# Altium schematic symbol library WE-LQS.SchLib: 214 symbols (part 4 of 4)
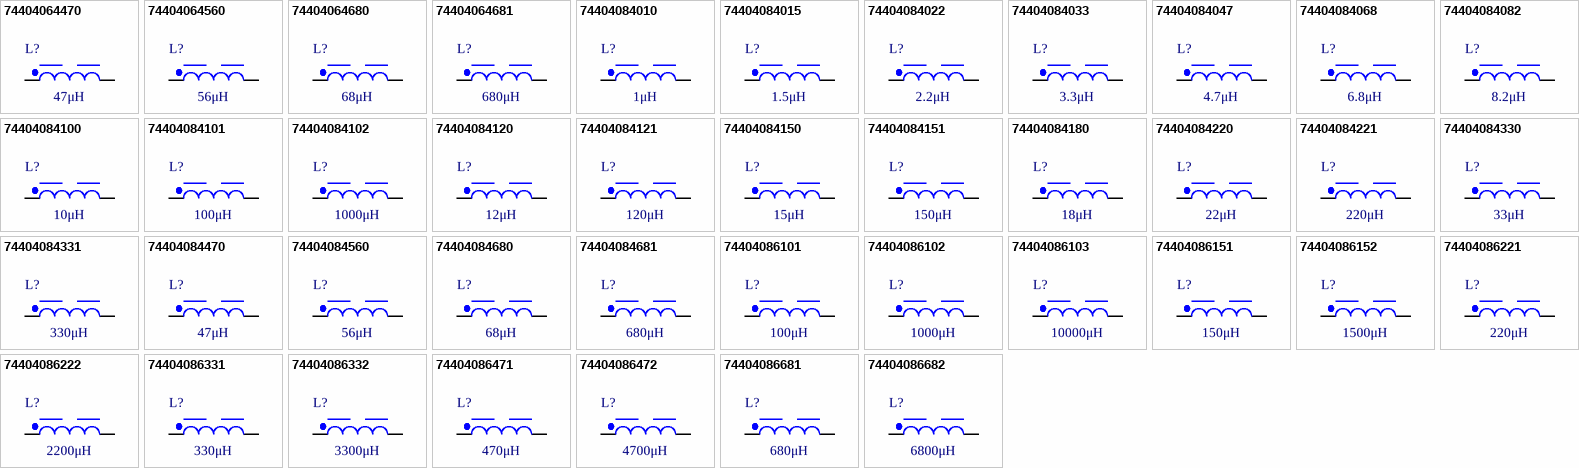
[diagram p8: symbols 74404064470 to 74404086682]

## 74404084221
designator L?, comment 220μH
WE-LQS SMT Power Inductor, size 8040, 220μH, 0.592Ω; Manufacturer Part Number: 74404084221; Manufacturer: Wurth Elektronik; Case/Size Code: 8040; Rated Current: 0.81A; Saturation Current: 1.1A; Self Resonant Frequency: 4.5MHz; Category: Power Inductors; Match Code: WE-LQS; ComponentLink1Description: Website Link; ComponentLink1URL: https://www.we-online.com/redexpert/article/74404084221?ad; ComponentLink2Description: Datasheet Link; ComponentLink2URL: https://www.we-online.com/redexpert/spec/74404084221?ad; Mount: Surface Mount; Min Operating Temperature: -40°C; Max Operating Temperature: 125°C; Packaging: Tape and Reel; Length: 8mm; Width: 8mm; Height: 4.2mm; DC Resistance: 0.592Ω; Inductance: 220μH
footprint WE-LQS_8040
simulation model 8040_74404084221_220u
pins: 1, 2

## 74404084330
designator L?, comment 33μH
WE-LQS SMT Power Inductor, size 8040, 33μH, 0.097Ω; Manufacturer Part Number: 74404084330; Manufacturer: Wurth Elektronik; Case/Size Code: 8040; Rated Current: 1.8A; Saturation Current: 2.7A; Self Resonant Frequency: 12MHz; Category: Power Inductors; Match Code: WE-LQS; ComponentLink1Description: Website Link; ComponentLink1URL: https://www.we-online.com/redexpert/article/74404084330?ad; ComponentLink2Description: Datasheet Link; ComponentLink2URL: https://www.we-online.com/redexpert/spec/74404084330?ad; Mount: Surface Mount; Min Operating Temperature: -40°C; Max Operating Temperature: 125°C; Packaging: Tape and Reel; Length: 8mm; Width: 8mm; Height: 4.2mm; DC Resistance: 0.097Ω; Inductance: 33μH
footprint WE-LQS_8040
simulation model 8040_74404084330_33u
pins: 1, 2

## 74404084331
designator L?, comment 330μH
WE-LQS SMT Power Inductor, size 8040, 330μH, 0.865Ω; Manufacturer Part Number: 74404084331; Manufacturer: Wurth Elektronik; Case/Size Code: 8040; Rated Current: 0.66A; Saturation Current: 0.9A; Self Resonant Frequency: 3.55MHz; Category: Power Inductors; Match Code: WE-LQS; ComponentLink1Description: Website Link; ComponentLink1URL: https://www.we-online.com/redexpert/article/74404084331?ad; ComponentLink2Description: Datasheet Link; ComponentLink2URL: https://www.we-online.com/redexpert/spec/74404084331?ad; Mount: Surface Mount; Min Operating Temperature: -40°C; Max Operating Temperature: 125°C; Packaging: Tape and Reel; Length: 8mm; Width: 8mm; Height: 4.2mm; DC Resistance: 0.865Ω; Inductance: 330μH
footprint WE-LQS_8040
simulation model 8040_74404084331_330u
pins: 1, 2

## 74404084470
designator L?, comment 47μH
WE-LQS SMT Power Inductor, size 8040, 47μH, 0.136Ω; Manufacturer Part Number: 74404084470; Manufacturer: Wurth Elektronik; Case/Size Code: 8040; Rated Current: 1.55A; Saturation Current: 2.1A; Self Resonant Frequency: 9.8MHz; Category: Power Inductors; Match Code: WE-LQS; ComponentLink1Description: Website Link; ComponentLink1URL: https://www.we-online.com/redexpert/article/74404084470?ad; ComponentLink2Description: Datasheet Link; ComponentLink2URL: https://www.we-online.com/redexpert/spec/74404084470?ad; Mount: Surface Mount; Min Operating Temperature: -40°C; Max Operating Temperature: 125°C; Packaging: Tape and Reel; Length: 8mm; Width: 8mm; Height: 4.2mm; DC Resistance: 0.136Ω; Inductance: 47μH
footprint WE-LQS_8040
simulation model 8040_74404084470_47u
pins: 1, 2

## 74404084560
designator L?, comment 56μH
WE-LQS SMT Power Inductor, size 8040, 56μH, 0.18Ω; Manufacturer Part Number: 74404084560; Manufacturer: Wurth Elektronik; Case/Size Code: 8040; Rated Current: 1.5A; Saturation Current: 2A; Self Resonant Frequency: 8MHz; Category: Power Inductors; Match Code: WE-LQS; ComponentLink1Description: Website Link; ComponentLink1URL: https://www.we-online.com/redexpert/article/74404084560?ad; ComponentLink2Description: Datasheet Link; ComponentLink2URL: https://www.we-online.com/redexpert/spec/74404084560?ad; Mount: Surface Mount; Min Operating Temperature: -40°C; Max Operating Temperature: 125°C; Packaging: Tape and Reel; Length: 8mm; Width: 8mm; Height: 4.2mm; DC Resistance: 0.18Ω; Inductance: 56μH
footprint WE-LQS_8040
simulation model 8040_74404084560_56u
pins: 1, 2

## 74404084680
designator L?, comment 68μH
WE-LQS SMT Power Inductor, size 8040, 68μH, 0.196Ω; Manufacturer Part Number: 74404084680; Manufacturer: Wurth Elektronik; Case/Size Code: 8040; Rated Current: 1.25A; Saturation Current: 1.7A; Self Resonant Frequency: 8.1MHz; Category: Power Inductors; Match Code: WE-LQS; ComponentLink1Description: Website Link; ComponentLink1URL: https://www.we-online.com/redexpert/article/74404084680?ad; ComponentLink2Description: Datasheet Link; ComponentLink2URL: https://www.we-online.com/redexpert/spec/74404084680?ad; Mount: Surface Mount; Min Operating Temperature: -40°C; Max Operating Temperature: 125°C; Packaging: Tape and Reel; Length: 8mm; Width: 8mm; Height: 4.2mm; DC Resistance: 0.196Ω; Inductance: 68μH
footprint WE-LQS_8040
simulation model 8040_74404084680_68u
pins: 1, 2

## 74404084681
designator L?, comment 680μH
WE-LQS SMT Power Inductor, size 8040, 680μH, 2.032Ω; Manufacturer Part Number: 74404084681; Manufacturer: Wurth Elektronik; Case/Size Code: 8040; Rated Current: 0.52A; Saturation Current: 0.6A; Self Resonant Frequency: 2.1MHz; Category: Power Inductors; Match Code: WE-LQS; ComponentLink1Description: Website Link; ComponentLink1URL: https://www.we-online.com/redexpert/article/74404084681?ad; ComponentLink2Description: Datasheet Link; ComponentLink2URL: https://www.we-online.com/redexpert/spec/74404084681?ad; Mount: Surface Mount; Min Operating Temperature: -40°C; Max Operating Temperature: 125°C; Packaging: Tape and Reel; Length: 8mm; Width: 8mm; Height: 4.2mm; DC Resistance: 2.032Ω; Inductance: 680μH
footprint WE-LQS_8040
simulation model 8040_74404084681_680u
pins: 1, 2

## 74404086101
designator L?, comment 100μH
WE-LQS SMT Power Inductor, size 8065, 100μH, 0.238Ω; Manufacturer Part Number: 74404086101; Manufacturer: Wurth Elektronik; Case/Size Code: 8065; Rated Current: 1.35A; Saturation Current: 2.15A; Self Resonant Frequency: 4MHz; Category: Power Inductors; Match Code: WE-LQS; ComponentLink1Description: Website Link; ComponentLink1URL: https://www.we-online.com/redexpert/article/74404086101?ad; ComponentLink2Description: Datasheet Link; ComponentLink2URL: https://www.we-online.com/redexpert/spec/74404086101?ad; Mount: Surface Mount; Min Operating Temperature: -40°C; Max Operating Temperature: 125°C; Packaging: Tape and Reel; Length: 8mm; Width: 8mm; Height: 6.5mm; DC Resistance: 0.238Ω; Inductance: 100μH
footprint WE-LQS_8065
simulation model 8065_74404086101_100u
pins: 1, 2

## 74404086102
designator L?, comment 1000μH
WE-LQS SMT Power Inductor, size 8065, 1000μH, 2.35Ω; Manufacturer Part Number: 74404086102; Manufacturer: Wurth Elektronik; Case/Size Code: 8065; Rated Current: 0.48A; Saturation Current: 0.65A; Self Resonant Frequency: 1.39MHz; Category: Power Inductors; Match Code: WE-LQS; ComponentLink1Description: Website Link; ComponentLink1URL: https://www.we-online.com/redexpert/article/74404086102?ad; ComponentLink2Description: Datasheet Link; ComponentLink2URL: https://www.we-online.com/redexpert/spec/74404086102?ad; Mount: Surface Mount; Min Operating Temperature: -40°C; Max Operating Temperature: 125°C; Packaging: Tape and Reel; Length: 8mm; Width: 8mm; Height: 6.5mm; DC Resistance: 2.35Ω; Inductance: 1000μH
footprint WE-LQS_8065
simulation model 8065_74404086102_1000u
pins: 1, 2

## 74404086103
designator L?, comment 10000μH
WE-LQS SMT Power Inductor, size 8065, 10000μH, 22.8Ω; Manufacturer Part Number: 74404086103; Manufacturer: Wurth Elektronik; Case/Size Code: 8065; Rated Current: 0.13A; Saturation Current: 0.2A; Self Resonant Frequency: 0.411MHz; Category: Power Inductors; Match Code: WE-LQS; ComponentLink1Description: Website Link; ComponentLink1URL: https://www.we-online.com/redexpert/article/74404086103?ad; ComponentLink2Description: Datasheet Link; ComponentLink2URL: https://www.we-online.com/redexpert/spec/74404086103?ad; Mount: Surface Mount; Min Operating Temperature: -40°C; Max Operating Temperature: 125°C; Packaging: Tape and Reel; Length: 8mm; Width: 8mm; Height: 6.5mm; DC Resistance: 22.8Ω; Inductance: 10000μH
footprint WE-LQS_8065
simulation model 8065_74404086103_10000u
pins: 1, 2

## 74404086151
designator L?, comment 150μH
WE-LQS SMT Power Inductor, size 8065, 150μH, 0.355Ω; Manufacturer Part Number: 74404086151; Manufacturer: Wurth Elektronik; Case/Size Code: 8065; Rated Current: 1.2A; Saturation Current: 1.8A; Self Resonant Frequency: 3.2MHz; Category: Power Inductors; Match Code: WE-LQS; ComponentLink1Description: Website Link; ComponentLink1URL: https://www.we-online.com/redexpert/article/74404086151?ad; ComponentLink2Description: Datasheet Link; ComponentLink2URL: https://www.we-online.com/redexpert/spec/74404086151?ad; Mount: Surface Mount; Min Operating Temperature: -40°C; Max Operating Temperature: 125°C; Packaging: Tape and Reel; Length: 8mm; Width: 8mm; Height: 6.5mm; DC Resistance: 0.355Ω; Inductance: 150μH
footprint WE-LQS_8065
simulation model 8065_74404086151_150u
pins: 1, 2

## 74404086152
designator L?, comment 1500μH
WE-LQS SMT Power Inductor, size 8065, 1500μH, 3.65Ω; Manufacturer Part Number: 74404086152; Manufacturer: Wurth Elektronik; Case/Size Code: 8065; Rated Current: 0.36A; Saturation Current: 0.54A; Self Resonant Frequency: 1.13MHz; Category: Power Inductors; Match Code: WE-LQS; ComponentLink1Description: Website Link; ComponentLink1URL: https://www.we-online.com/redexpert/article/74404086152?ad; ComponentLink2Description: Datasheet Link; ComponentLink2URL: https://www.we-online.com/redexpert/spec/74404086152?ad; Mount: Surface Mount; Min Operating Temperature: -40°C; Max Operating Temperature: 125°C; Packaging: Tape and Reel; Length: 8mm; Width: 8mm; Height: 6.5mm; DC Resistance: 3.65Ω; Inductance: 1500μH
footprint WE-LQS_8065
simulation model 8065_74404086152_1500u
pins: 1, 2

## 74404086221
designator L?, comment 220μH
WE-LQS SMT Power Inductor, size 8065, 220μH, 0.555Ω; Manufacturer Part Number: 74404086221; Manufacturer: Wurth Elektronik; Case/Size Code: 8065; Rated Current: 0.95A; Saturation Current: 1.44A; Self Resonant Frequency: 2.8MHz; Category: Power Inductors; Match Code: WE-LQS; ComponentLink1Description: Website Link; ComponentLink1URL: https://www.we-online.com/redexpert/article/74404086221?ad; ComponentLink2Description: Datasheet Link; ComponentLink2URL: https://www.we-online.com/redexpert/spec/74404086221?ad; Mount: Surface Mount; Min Operating Temperature: -40°C; Max Operating Temperature: 125°C; Packaging: Tape and Reel; Length: 8mm; Width: 8mm; Height: 6.5mm; DC Resistance: 0.555Ω; Inductance: 220μH
footprint WE-LQS_8065
simulation model 8065_74404086221_220u
pins: 1, 2

## 74404086222
designator L?, comment 2200μH
WE-LQS SMT Power Inductor, size 8065, 2200μH, 5Ω; Manufacturer Part Number: 74404086222; Manufacturer: Wurth Elektronik; Case/Size Code: 8065; Rated Current: 0.31A; Saturation Current: 0.45A; Self Resonant Frequency: 0.924MHz; Category: Power Inductors; Match Code: WE-LQS; ComponentLink1Description: Website Link; ComponentLink1URL: https://www.we-online.com/redexpert/article/74404086222?ad; ComponentLink2Description: Datasheet Link; ComponentLink2URL: https://www.we-online.com/redexpert/spec/74404086222?ad; Mount: Surface Mount; Min Operating Temperature: -40°C; Max Operating Temperature: 125°C; Packaging: Tape and Reel; Length: 8mm; Width: 8mm; Height: 6.5mm; DC Resistance: 5Ω; Inductance: 2200μH
footprint WE-LQS_8065
simulation model 8065_74404086222_2200u
pins: 1, 2

## 74404086331
designator L?, comment 330μH
WE-LQS SMT Power Inductor, size 8065, 330μH, 0.698Ω; Manufacturer Part Number: 74404086331; Manufacturer: Wurth Elektronik; Case/Size Code: 8065; Rated Current: 0.85A; Saturation Current: 1.12A; Self Resonant Frequency: 2.3MHz; Category: Power Inductors; Match Code: WE-LQS; ComponentLink1Description: Website Link; ComponentLink1URL: https://www.we-online.com/redexpert/article/74404086331?ad; ComponentLink2Description: Datasheet Link; ComponentLink2URL: https://www.we-online.com/redexpert/spec/74404086331?ad; Mount: Surface Mount; Min Operating Temperature: -40°C; Max Operating Temperature: 125°C; Packaging: Tape and Reel; Length: 8mm; Width: 8mm; Height: 6.5mm; DC Resistance: 0.698Ω; Inductance: 330μH
footprint WE-LQS_8065
simulation model 8065_74404086331_330u
pins: 1, 2

## 74404086332
designator L?, comment 3300μH
WE-LQS SMT Power Inductor, size 8065, 3300μH, 7.3Ω; Manufacturer Part Number: 74404086332; Manufacturer: Wurth Elektronik; Case/Size Code: 8065; Rated Current: 0.24A; Saturation Current: 0.36A; Self Resonant Frequency: 0.759MHz; Category: Power Inductors; Match Code: WE-LQS; ComponentLink1Description: Website Link; ComponentLink1URL: https://www.we-online.com/redexpert/article/74404086332?ad; ComponentLink2Description: Datasheet Link; ComponentLink2URL: https://www.we-online.com/redexpert/spec/74404086332?ad; Mount: Surface Mount; Min Operating Temperature: -40°C; Max Operating Temperature: 125°C; Packaging: Tape and Reel; Length: 8mm; Width: 8mm; Height: 6.5mm; DC Resistance: 7.3Ω; Inductance: 3300μH
footprint WE-LQS_8065
simulation model 8065_74404086332_3300u
pins: 1, 2

## 74404086471
designator L?, comment 470μH
WE-LQS SMT Power Inductor, size 8065, 470μH, 1.2Ω; Manufacturer Part Number: 74404086471; Manufacturer: Wurth Elektronik; Case/Size Code: 8065; Rated Current: 0.65A; Saturation Current: 1.08A; Self Resonant Frequency: 1.8MHz; Category: Power Inductors; Match Code: WE-LQS; ComponentLink1Description: Website Link; ComponentLink1URL: https://www.we-online.com/redexpert/article/74404086471?ad; ComponentLink2Description: Datasheet Link; ComponentLink2URL: https://www.we-online.com/redexpert/spec/74404086471?ad; Mount: Surface Mount; Min Operating Temperature: -40°C; Max Operating Temperature: 125°C; Packaging: Tape and Reel; Length: 8mm; Width: 8mm; Height: 6.5mm; DC Resistance: 1.2Ω; Inductance: 470μH
footprint WE-LQS_8065
simulation model 8065_74404086471_470u
pins: 1, 2

## 74404086472
designator L?, comment 4700μH
WE-LQS SMT Power Inductor, size 8065, 4700μH, 12.15Ω; Manufacturer Part Number: 74404086472; Manufacturer: Wurth Elektronik; Case/Size Code: 8065; Rated Current: 0.19A; Saturation Current: 0.29A; Self Resonant Frequency: 0.62MHz; Category: Power Inductors; Match Code: WE-LQS; ComponentLink1Description: Website Link; ComponentLink1URL: https://www.we-online.com/redexpert/article/74404086472?ad; ComponentLink2Description: Datasheet Link; ComponentLink2URL: https://www.we-online.com/redexpert/spec/74404086472?ad; Mount: Surface Mount; Min Operating Temperature: -40°C; Max Operating Temperature: 125°C; Packaging: Tape and Reel; Length: 8mm; Width: 8mm; Height: 6.5mm; DC Resistance: 12.15Ω; Inductance: 4700μH
footprint WE-LQS_8065
simulation model 8065_74404086472_4700u
pins: 1, 2

## 74404086681
designator L?, comment 680μH
WE-LQS SMT Power Inductor, size 8065, 680μH, 1.65Ω; Manufacturer Part Number: 74404086681; Manufacturer: Wurth Elektronik; Case/Size Code: 8065; Rated Current: 0.53A; Saturation Current: 1A; Self Resonant Frequency: 1.6MHz; Category: Power Inductors; Match Code: WE-LQS; ComponentLink1Description: Website Link; ComponentLink1URL: https://www.we-online.com/redexpert/article/74404086681?ad; ComponentLink2Description: Datasheet Link; ComponentLink2URL: https://www.we-online.com/redexpert/spec/74404086681?ad; Mount: Surface Mount; Min Operating Temperature: -40°C; Max Operating Temperature: 125°C; Packaging: Tape and Reel; Length: 8mm; Width: 8mm; Height: 6.5mm; DC Resistance: 1.65Ω; Inductance: 680μH
footprint WE-LQS_8065
simulation model 8065_74404086681_680u
pins: 1, 2

## 74404086682
designator L?, comment 6800μH
WE-LQS SMT Power Inductor, size 8065, 6800μH, 18.7Ω; Manufacturer Part Number: 74404086682; Manufacturer: Wurth Elektronik; Case/Size Code: 8065; Rated Current: 0.14A; Saturation Current: 0.26A; Self Resonant Frequency: 0.509MHz; Category: Power Inductors; Match Code: WE-LQS; ComponentLink1Description: Website Link; ComponentLink1URL: https://www.we-online.com/redexpert/article/74404086682?ad; ComponentLink2Description: Datasheet Link; ComponentLink2URL: https://www.we-online.com/redexpert/spec/74404086682?ad; Mount: Surface Mount; Min Operating Temperature: -40°C; Max Operating Temperature: 125°C; Packaging: Tape and Reel; Length: 8mm; Width: 8mm; Height: 6.5mm; DC Resistance: 18.7Ω; Inductance: 6800μH
footprint WE-LQS_8065
simulation model 8065_74404086682_6800u
pins: 1, 2

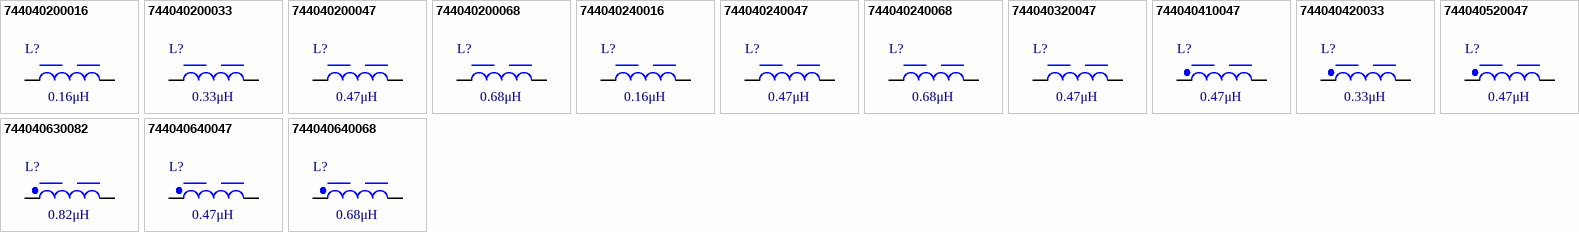
[diagram p5: symbols 744040200016 to 744040640068]

## 744040200016
designator L?, comment 0.16μH
WE-LQS SMT Power Inductor, size 2010, 0.16μH, 0.025Ω; Manufacturer Part Number: 744040200016; Manufacturer: Wurth Elektronik; Case/Size Code: 2010; Rated Current: 3A; Saturation Current: 4.9A; Self Resonant Frequency: 540MHz; Category: Power Inductors; Match Code: WE-LQS; ComponentLink1Description: Website Link; ComponentLink1URL: https://www.we-online.com/redexpert/article/744040200016?ad; ComponentLink2Description: Datasheet Link; ComponentLink2URL: https://www.we-online.com/redexpert/spec/744040200016?ad; Mount: Surface Mount; Min Operating Temperature: -40°C; Max Operating Temperature: 125°C; Packaging: Tape and Reel; Length: 2mm; Width: 1.6mm; Height: 1mm; DC Resistance: 0.025Ω; Inductance: 0.16μH
footprint WE-LQS_2010
simulation model 2010_744040200016_0.16u
pins: 1, 2

## 744040200033
designator L?, comment 0.33μH
WE-LQS SMT Power Inductor, size 2010, 0.33μH, 0.034Ω; Manufacturer Part Number: 744040200033; Manufacturer: Wurth Elektronik; Case/Size Code: 2010; Rated Current: 2.5A; Saturation Current: 3.4A; Self Resonant Frequency: 363MHz; Category: Power Inductors; Match Code: WE-LQS; ComponentLink1Description: Website Link; ComponentLink1URL: https://www.we-online.com/redexpert/article/744040200033?ad; ComponentLink2Description: Datasheet Link; ComponentLink2URL: https://www.we-online.com/redexpert/spec/744040200033?ad; Mount: Surface Mount; Min Operating Temperature: -40°C; Max Operating Temperature: 125°C; Packaging: Tape and Reel; Length: 2mm; Width: 1.6mm; Height: 1mm; DC Resistance: 0.034Ω; Inductance: 0.33μH
footprint WE-LQS_2010
simulation model 2010_744040200033_0.33u
pins: 1, 2

## 744040200047
designator L?, comment 0.47μH
WE-LQS SMT Power Inductor, size 2010, 0.47μH, 0.047Ω; Manufacturer Part Number: 744040200047; Manufacturer: Wurth Elektronik; Case/Size Code: 2010; Rated Current: 2.1A; Saturation Current: 2.8A; Self Resonant Frequency: 293MHz; Category: Power Inductors; Match Code: WE-LQS; ComponentLink1Description: Website Link; ComponentLink1URL: https://www.we-online.com/redexpert/article/744040200047?ad; ComponentLink2Description: Datasheet Link; ComponentLink2URL: https://www.we-online.com/redexpert/spec/744040200047?ad; Mount: Surface Mount; Min Operating Temperature: -40°C; Max Operating Temperature: 125°C; Packaging: Tape and Reel; Length: 2mm; Width: 1.6mm; Height: 1mm; DC Resistance: 0.047Ω; Inductance: 0.47μH
footprint WE-LQS_2010
simulation model 2010_744040200047_0.47u
pins: 1, 2

## 744040200068
designator L?, comment 0.68μH
WE-LQS SMT Power Inductor, size 2010, 0.68μH, 0.064Ω; Manufacturer Part Number: 744040200068; Manufacturer: Wurth Elektronik; Case/Size Code: 2010; Rated Current: 1.8A; Saturation Current: 2.4A; Self Resonant Frequency: 196MHz; Category: Power Inductors; Match Code: WE-LQS; ComponentLink1Description: Website Link; ComponentLink1URL: https://www.we-online.com/redexpert/article/744040200068?ad; ComponentLink2Description: Datasheet Link; ComponentLink2URL: https://www.we-online.com/redexpert/spec/744040200068?ad; Mount: Surface Mount; Min Operating Temperature: -40°C; Max Operating Temperature: 125°C; Packaging: Tape and Reel; Length: 2mm; Width: 1.6mm; Height: 1mm; DC Resistance: 0.064Ω; Inductance: 0.68μH
footprint WE-LQS_2010
simulation model 2010_744040200068_0.68u
pins: 1, 2

## 744040240016
designator L?, comment 0.16μH
WE-LQS SMT Power Inductor, size 2512, 0.16μH, 0.016Ω; Manufacturer Part Number: 744040240016; Manufacturer: Wurth Elektronik; Case/Size Code: 2512; Rated Current: 3.7A; Saturation Current: 7A; Self Resonant Frequency: 644MHz; Category: Power Inductors; Match Code: WE-LQS; ComponentLink1Description: Website Link; ComponentLink1URL: https://www.we-online.com/redexpert/article/744040240016?ad; ComponentLink2Description: Datasheet Link; ComponentLink2URL: https://www.we-online.com/redexpert/spec/744040240016?ad; Mount: Surface Mount; Min Operating Temperature: -40°C; Max Operating Temperature: 125°C; Packaging: Tape and Reel; Length: 2.5mm; Width: 2mm; Height: 1.2mm; DC Resistance: 0.016Ω; Inductance: 0.16μH
footprint WE-LQS_2512
simulation model 2512_744040240016_0.16u
pins: 1, 2

## 744040240047
designator L?, comment 0.47μH
WE-LQS SMT Power Inductor, size 2512, 0.47μH, 0.032Ω; Manufacturer Part Number: 744040240047; Manufacturer: Wurth Elektronik; Case/Size Code: 2512; Rated Current: 2.6A; Saturation Current: 5A; Self Resonant Frequency: 231MHz; Category: Power Inductors; Match Code: WE-LQS; ComponentLink1Description: Website Link; ComponentLink1URL: https://www.we-online.com/redexpert/article/744040240047?ad; ComponentLink2Description: Datasheet Link; ComponentLink2URL: https://www.we-online.com/redexpert/spec/744040240047?ad; Mount: Surface Mount; Min Operating Temperature: -40°C; Max Operating Temperature: 125°C; Packaging: Tape and Reel; Length: 2.5mm; Width: 2mm; Height: 1.2mm; DC Resistance: 0.032Ω; Inductance: 0.47μH
footprint WE-LQS_2512
simulation model 2512_744040240047_0.47u
pins: 1, 2

## 744040240068
designator L?, comment 0.68μH
WE-LQS SMT Power Inductor, size 2512, 0.68μH, 0.035Ω; Manufacturer Part Number: 744040240068; Manufacturer: Wurth Elektronik; Case/Size Code: 2512; Rated Current: 2.5A; Saturation Current: 3.5A; Self Resonant Frequency: 176MHz; Category: Power Inductors; Match Code: WE-LQS; ComponentLink1Description: Website Link; ComponentLink1URL: https://www.we-online.com/redexpert/article/744040240068?ad; ComponentLink2Description: Datasheet Link; ComponentLink2URL: https://www.we-online.com/redexpert/spec/744040240068?ad; Mount: Surface Mount; Min Operating Temperature: -40°C; Max Operating Temperature: 125°C; Packaging: Tape and Reel; Length: 2.5mm; Width: 2mm; Height: 1.2mm; DC Resistance: 0.035Ω; Inductance: 0.68μH
footprint WE-LQS_2512
simulation model 2512_744040240068_0.68u
pins: 1, 2

## 744040320047
designator L?, comment 0.47μH
WE-LQS SMT Power Inductor, size 3015, 0.47μH, 0.018Ω; Manufacturer Part Number: 744040320047; Manufacturer: Wurth Elektronik; Case/Size Code: 3015; Rated Current: 3A; Saturation Current: 4A; Self Resonant Frequency: 304MHz; Category: Power Inductors; Match Code: WE-LQS; ComponentLink1Description: Website Link; ComponentLink1URL: https://www.we-online.com/redexpert/article/744040320047?ad; ComponentLink2Description: Datasheet Link; ComponentLink2URL: https://www.we-online.com/redexpert/spec/744040320047?ad; Mount: Surface Mount; Min Operating Temperature: -40°C; Max Operating Temperature: 125°C; Packaging: Tape and Reel; Length: 3mm; Width: 3mm; Height: 1.5mm; DC Resistance: 0.018Ω; Inductance: 0.47μH
footprint WE-LQS_3015
simulation model 3015_744040320047_0.47u
pins: 1, 2

## 744040410047
designator L?, comment 0.47μH
WE-LQS SMT Power Inductor, size 4012, 0.47μH, 0.028Ω; Manufacturer Part Number: 744040410047; Manufacturer: Wurth Elektronik; Case/Size Code: 4012; Rated Current: 3.25A; Saturation Current: 4.25A; Self Resonant Frequency: 274MHz; Category: Power Inductors; Match Code: WE-LQS; ComponentLink1Description: Website Link; ComponentLink1URL: https://www.we-online.com/redexpert/article/744040410047?ad; ComponentLink2Description: Datasheet Link; ComponentLink2URL: https://www.we-online.com/redexpert/spec/744040410047?ad; Mount: Surface Mount; Min Operating Temperature: -40°C; Max Operating Temperature: 125°C; Packaging: Tape and Reel; Length: 4mm; Width: 4mm; Height: 1.2mm; DC Resistance: 0.028Ω; Inductance: 0.47μH
footprint WE-LQS_4012
simulation model 4012_744040410047_0.47u
pins: 1, 2

## 744040420033
designator L?, comment 0.33μH
WE-LQS SMT Power Inductor, size 4018, 0.33μH, 0.013Ω; Manufacturer Part Number: 744040420033; Manufacturer: Wurth Elektronik; Case/Size Code: 4018; Rated Current: 4.5A; Saturation Current: 7.6A; Self Resonant Frequency: 326MHz; Category: Power Inductors; Match Code: WE-LQS; ComponentLink1Description: Website Link; ComponentLink1URL: https://www.we-online.com/redexpert/article/744040420033?ad; ComponentLink2Description: Datasheet Link; ComponentLink2URL: https://www.we-online.com/redexpert/spec/744040420033?ad; Mount: Surface Mount; Min Operating Temperature: -40°C; Max Operating Temperature: 125°C; Packaging: Tape and Reel; Length: 4mm; Width: 4mm; Height: 1.8mm; DC Resistance: 0.013Ω; Inductance: 0.33μH
footprint WE-LQS_4018
simulation model 4018_744040420033_0.33u
pins: 1, 2

## 744040520047
designator L?, comment 0.47μH
WE-LQS SMT Power Inductor, size 5020, 0.47μH, 0.0139Ω; Manufacturer Part Number: 744040520047; Manufacturer: Wurth Elektronik; Case/Size Code: 5020; Rated Current: 4.9A; Saturation Current: 8.5A; Self Resonant Frequency: 252MHz; Category: Power Inductors; Match Code: WE-LQS; ComponentLink1Description: Website Link; ComponentLink1URL: https://www.we-online.com/redexpert/article/744040520047?ad; ComponentLink2Description: Datasheet Link; ComponentLink2URL: https://www.we-online.com/redexpert/spec/744040520047?ad; Mount: Surface Mount; Min Operating Temperature: -40°C; Max Operating Temperature: 125°C; Packaging: Tape and Reel; Length: 5mm; Width: 5mm; Height: 2mm; DC Resistance: 0.0139Ω; Inductance: 0.47μH
footprint WE-LQS_5020
simulation model 5020_744040520047_0.47u
pins: 1, 2

## 744040630082
designator L?, comment 0.82μH
WE-LQS SMT Power Inductor, size 6028, 0.82μH, 0.01Ω; Manufacturer Part Number: 744040630082; Manufacturer: Wurth Elektronik; Case/Size Code: 6028; Rated Current: 6A; Saturation Current: 9.5A; Self Resonant Frequency: 144MHz; Category: Power Inductors; Match Code: WE-LQS; ComponentLink1Description: Website Link; ComponentLink1URL: https://www.we-online.com/redexpert/article/744040630082?ad; ComponentLink2Description: Datasheet Link; ComponentLink2URL: https://www.we-online.com/redexpert/spec/744040630082?ad; Mount: Surface Mount; Min Operating Temperature: -40°C; Max Operating Temperature: 125°C; Packaging: Tape and Reel; Length: 6mm; Width: 6mm; Height: 2.8mm; DC Resistance: 0.01Ω; Inductance: 0.82μH
footprint WE-LQS_6028
simulation model 6028_744040630082_0.82u
pins: 1, 2

## 744040640047
designator L?, comment 0.47μH
WE-LQS SMT Power Inductor, size 6045, 0.47μH, 0.006Ω; Manufacturer Part Number: 744040640047; Manufacturer: Wurth Elektronik; Case/Size Code: 6045; Rated Current: 8A; Saturation Current: 16A; Self Resonant Frequency: 235MHz; Category: Power Inductors; Match Code: WE-LQS; ComponentLink1Description: Website Link; ComponentLink1URL: https://www.we-online.com/redexpert/article/744040640047?ad; ComponentLink2Description: Datasheet Link; ComponentLink2URL: https://www.we-online.com/redexpert/spec/744040640047?ad; Mount: Surface Mount; Min Operating Temperature: -40°C; Max Operating Temperature: 125°C; Packaging: Tape and Reel; Length: 6mm; Width: 6mm; Height: 4.5mm; DC Resistance: 0.006Ω; Inductance: 0.47μH
footprint WE-LQS_6045
simulation model 6045_744040640047_0.47u
pins: 1, 2

## 744040640068
designator L?, comment 0.68μH
WE-LQS SMT Power Inductor, size 6045, 0.68μH, 0.007Ω; Manufacturer Part Number: 744040640068; Manufacturer: Wurth Elektronik; Case/Size Code: 6045; Rated Current: 7.2A; Saturation Current: 12A; Self Resonant Frequency: 169MHz; Category: Power Inductors; Match Code: WE-LQS; ComponentLink1Description: Website Link; ComponentLink1URL: https://www.we-online.com/redexpert/article/744040640068?ad; ComponentLink2Description: Datasheet Link; ComponentLink2URL: https://www.we-online.com/redexpert/spec/744040640068?ad; Mount: Surface Mount; Min Operating Temperature: -40°C; Max Operating Temperature: 125°C; Packaging: Tape and Reel; Length: 6mm; Width: 6mm; Height: 4.5mm; DC Resistance: 0.007Ω; Inductance: 0.68μH
footprint WE-LQS_6045
simulation model 6045_744040640068_0.68u
pins: 1, 2